# Altium footprint library 数码管.PcbLib: 28 footprints (part 1 of 2)
Each footprint in its own frame and in the unit in brackets; x right, y up, seen from the top. Pads: shape width x height; smd on the part's side, far side on the other; paste and mask are expansions set on the pad; w line width, h text height; cw(c..) or ccw(c..) is an arc to the next point about the centre after c.
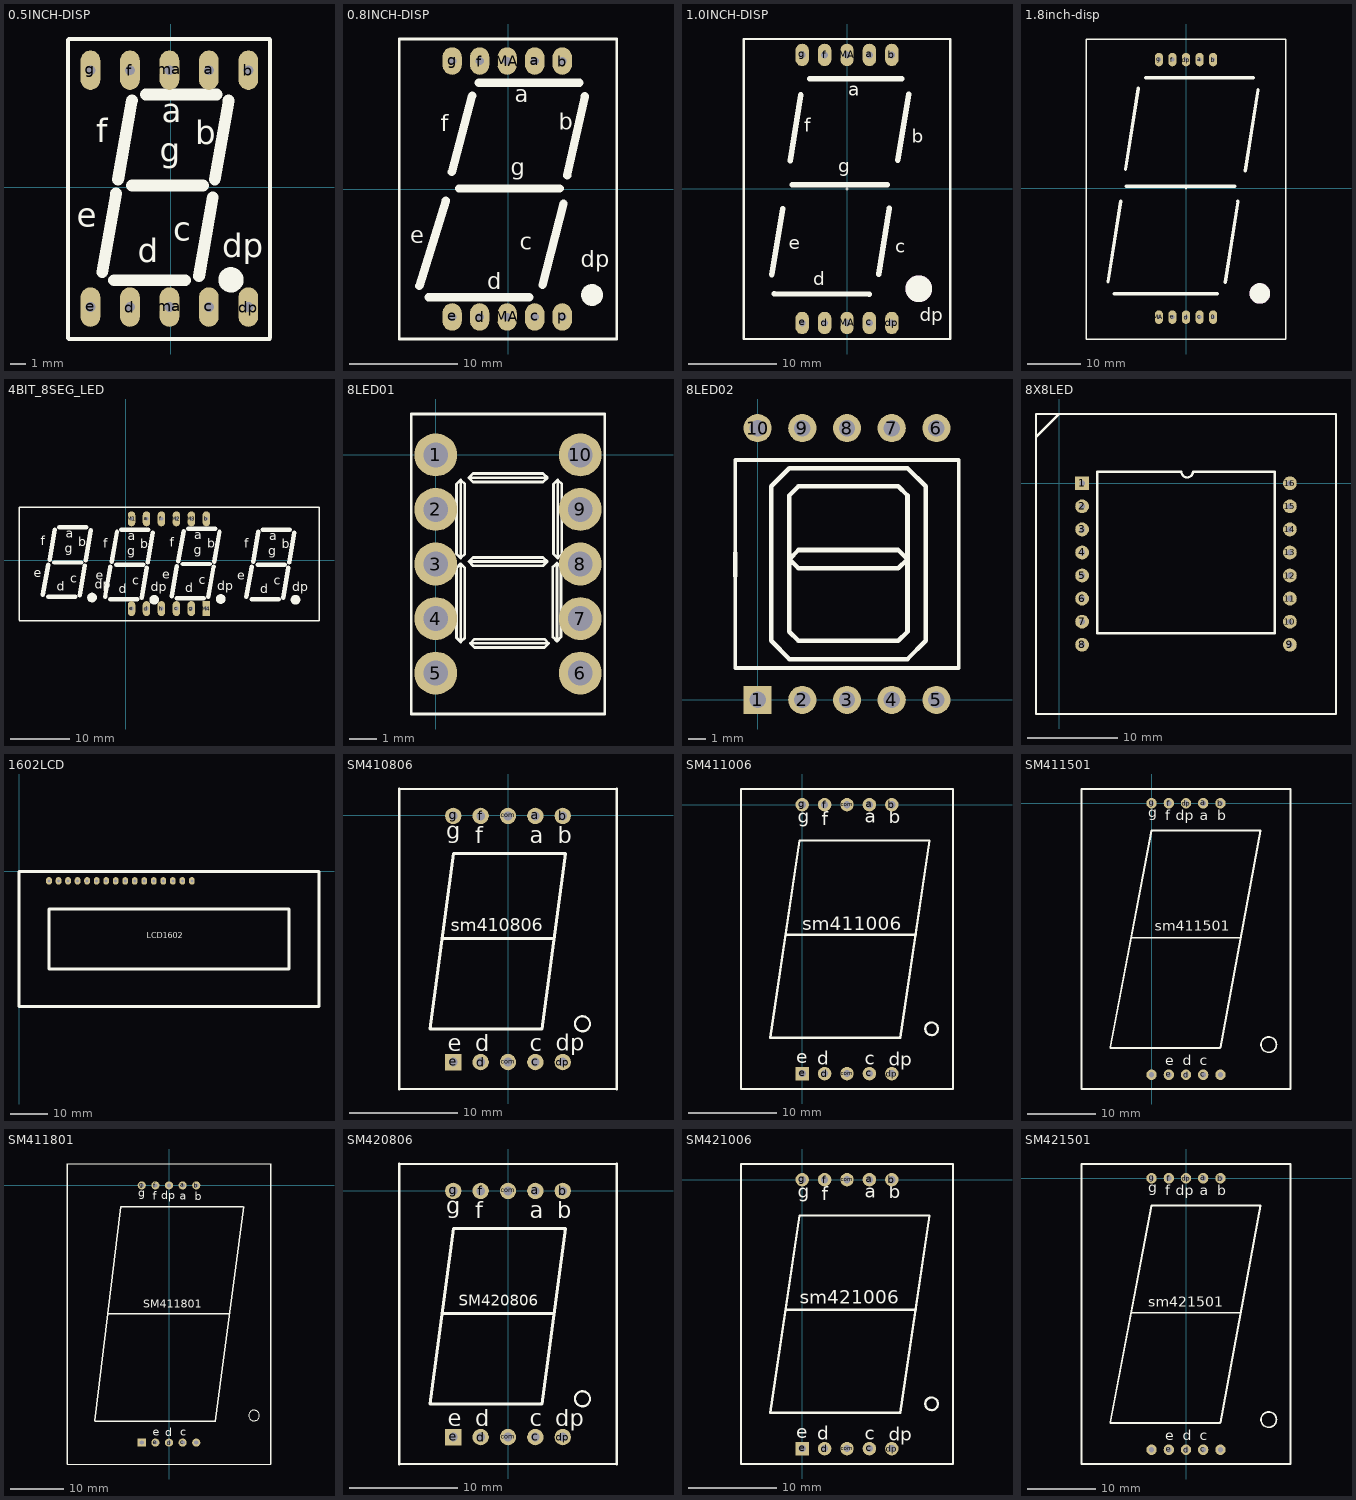
[diagram p0: the footprints below, top view; thin cyan lines are the x and y axes]

## 0.5INCH-DISP [mil]
pads (10):
  oval 50x100 hole 25: a(97,297) b(197,297) c(97,-303) d(-103,-303) dp(197,-303) e(-203,-303) f(-103,297) g(-203,297) ma(-3,-303) ma(-3,297)
Top Overlay:
  circle w40: c153,-234 r12
  lines w10: -260,-382 -260,374 ; -258,-384 251,-384 ; -258,376 251,376 ; 252,-380 252,374
  lines w30: -173,-215 -138,-15 ; -143,-235 37,-235 ; -133,20 -98,220 ; -98,5 82,5 ; -63,235 117,235 ; 72,-225 107,-25 ; 112,20 147,220
  text "c" at 7,-135 h60
  text "dp" at 131,-177 h60
  text "e" at -238,-100 h60
  text "d" at -83,-190 h60
  text "a" at -23,165 h60
  text "g" at -28,65 h60
  text "b" at 62,110 h60
  text "f" at -188,115 h60

## 0.8INCH-DISP [mil]
pads (10):
  oval 70x100 hole 30: a(97,465) b(197,465) c(97,-465) d(-103,-465) e(-203,-465) f(-103,465) g(-203,465) MA(-3,-465) MA(-3,465) p(197,-465)
Top Overlay:
  circle w40: c305.31,-385 r19.68
  lines w10: -395,-545 -395,545 395,545 395,-545 -395,-545
  lines w30: -322,-352 -226,-42 ; -289,-393 77.14,-393 ; -204,62 -130,339 ; -177.68,2.24 188.47,2.24 ; -108,-478 -103,-473 ; -106.14,386 260,386 ; 125,-349 202,-53 ; 215,49 279,337
  text "a" at 25,315 h60
  text "g" at 10,50 h60
  text "c" at 43,-220 h60
  text "d" at -75,-365 h60
  text "e" at -355,-198 h60
  text "f" at -245,210 h60
  text "dp" at 265,-285 h60
  text "b" at 185,215 h60

## 1.0INCH-DISP [mil]
pads (10):
  oval 60x100 hole 30: a(100,598) b(200,598) c(100,-598) d(-100,-598) dp(200,-598) e(-200,-598) f(-100,598) g(-200,598) MA(0,-598) MA(0,598)
Top Overlay:
  lines w2: -6,0 6,0 ; 0,-6 0,5
  lines w10: -461,-10 -461,10 ; -460.88,-669.58 -460.88,669 ; -459.88,-669.58 461,-669.58 461,669 -459.88,669
  lines w25: -335,-382 -287,-89 ; -324,-467 99,-470 ; -254,126 -206,419 ; -244,19 179,19 ; -167,492 245,492 ; 141,-380 189,-87 ; 227,129 275,422
  text "g" at -40,75 h60
  text "dp" at 325,-590 h60
  text "f" at -190,255 h60
  text "e" at -260,-270 h60
  text "d" at -150,-430 h60
  text "c" at 215,-285 h60
  text "b" at 290,205 h60
  text "a" at 5,415 h60
Top Overlay keep-out:
  circle w100: c320.57,-445 r9.43

## 1.8inch-disp [mil]
pads (10):
  oval 60x100 hole 30: 0(200,-950) a(100,950) b(200,950) c(100,-950) d(0,-950) dp(0,950) e(-100,-950) f(-100,950) g(-200,950) MA(-200,-950)
Top Overlay:
  lines w2: -5,0 5,0 ; 0,-5 0,4
  lines w10: -736,-1111 736,-1111 736,1101.6 -736,1101.6 -736,-1111
  lines w25: -575,-691 -481,-93 ; -528,-778 230,-778 ; -446,139 -352,737 ; -442,15 359,15 ; -299,815 496,815 ; 289,-694 383,-96 ; 437,128 531,726
Top Overlay keep-out:
  circle w100: c544.39,-775 r25.61

## 4BIT_8SEG_LED [mil]
pads (12):
  oval 50x100 hole 25: a(137,277) b(537,277) c(337,-323) d(137,-323) e(37,-323) f(237,277) g(437,-323) h(237,-323) M1(37,277) M2(337,277) M3(437,277)
  rect 50x100 hole 25: M4(537,-323)
Top Overlay:
  circle w40: c188,-264 r12
  circle w40: c-227,-249 r12
  circle w40: c633,-259 r12
  circle w40: c1133,-264 r12
  lines w10: -715,-405 1290,-405 ; -715,-401 -715,355 1290,355 1290,-404
  lines w30: -555,-230 -520,-30 ; -520,-245 -340,-245 ; -510,5 -475,205 ; -480,-15 -300,-15 ; -445,220 -265,220 ; -310,-235 -275,-35 ; -270,0 -235,200 ; -140,-245 -105,-45 ; -105,-260 75,-260 ; -95,-10 -60,190 ; -65,-30 115,-30 ; -30,205 150,205 ; 105,-250 140,-50 ; 145,-15 180,185 ; 305,-240 340,-40 ; 340,-255 520,-255 ; 350,-5 385,195 ; 380,-25 560,-25 ; 415,210 595,210 ; 550,-245 585,-45 ; 590,-10 625,190 ; 805,-245 840,-45 ; 840,-260 1020,-260 ; 850,-10 885,190 ; 880,-30 1060,-30 ; 915,205 1095,205 ; 1050,-250 1085,-50 ; 1090,-15 1125,185
  text "c" at 42,-165 h60
  text "dp" at 166,-207 h60
  text "e" at -203,-130 h60
  text "d" at -48,-220 h60
  text "a" at 12,135 h60
  text "g" at 7,35 h60
  text "b" at 97,80 h60
  text "f" at -153,85 h60
  text "c" at -373,-150 h60
  text "dp" at -209,-192 h60
  text "e" at -618,-115 h60
  text "d" at -463,-205 h60
  text "a" at -403,150 h60
  text "g" at -408,50 h60
  text "b" at -318,95 h60
  text "f" at -568,100 h60
  text "c" at 487,-160 h60
  text "dp" at 611,-202 h60
  text "e" at 242,-125 h60
  text "d" at 397,-215 h60
  text "a" at 457,140 h60
  text "g" at 452,40 h60
  text "b" at 542,85 h60
  text "f" at 292,90 h60
  text "c" at 987,-165 h60
  text "dp" at 1111,-207 h60
  text "e" at 742,-130 h60
  text "d" at 897,-220 h60
  text "a" at 957,135 h60
  text "g" at 952,35 h60
  text "b" at 1042,80 h60
  text "f" at 792,85 h60

## 8LED01 [mil]
pads (10):
  round 62 hole 36: 1(0,0) 2(0,-78.74) 3(0,-157.48) 4(0,-236.22) 5(0,-314.96) 6(208.66,-314.96) 7(208.66,-236.22) 8(208.66,-157.48) 9(208.66,-78.74) 10(208.66,0)
Top Overlay:
  lines w3.94: 36,-269.96 36,-156.96 ; 36,-269.96 30,-263.96 30,-162.96 36,-156.96 ; 36,-269.96 42,-263.96 42,-162.96 36,-156.96 ; 36,-148.96 36,-35.96 ; 36,-148.96 30,-142.96 30,-41.96 36,-35.96 ; 36,-148.96 42,-142.96 42,-41.96 36,-35.96 ; 48,-153.96 161,-153.96 ; 48,-153.96 54,-147.96 155,-147.96 161,-153.96 ; 48,-153.96 54,-159.96 155,-159.96 161,-153.96 ; 48,-32.96 161,-32.96 ; 48,-32.96 54,-26.96 155,-26.96 161,-32.96 ; 48,-32.96 54,-38.96 155,-38.96 161,-32.96 ; 50,-271.96 163,-271.96 ; 50,-271.96 56,-265.96 157,-265.96 163,-271.96 ; 50,-271.96 56,-277.96 157,-277.96 163,-271.96 ; 175,-268.96 175,-155.96 ; 175,-268.96 169,-262.96 169,-161.96 175,-155.96 ; 175,-268.96 181,-262.96 181,-161.96 175,-155.96 ; 176,-148.96 176,-35.96 ; 176,-148.96 170,-142.96 170,-41.96 176,-35.96 ; 176,-148.96 182,-142.96 182,-41.96 176,-35.96 ; -35.43,-374.01 244.09,-374.01 244.09,59.05 -35.43,59.05 -35.43,-374.01

## 8LED02 [mil]
pads (10):
  rect 62x62 hole 36: 1(0,0)
  round 62 hole 36: 2(98.42,0) 3(196.85,0) 4(295.28,0) 5(393.7,0) 6(393.7,598.42) 7(295.28,598.42) 8(196.85,598.42) 9(98.42,598.42) 10(0,598.42)
Top Overlay:
  lines w7.87: -49.21,274.61 -49.21,70.28 442.91,70.28 442.91,528.15 -49.21,528.15 -49.21,323.82
  lines w10: -49,272 -49,324 ; 30,130 70,90 330,90 370,130 370,470 330,510 310,510 90,510 70,510 30,470 30,130 ; 70,150 70,450 90,470 310,470 330,450 330,150 310,130 90,130 70,150 ; 70,310 90,330 310,330 330,310 310,290 90,290 70,310

## 8X8LED [mil]
pads (16):
  rect 60x60 hole 25: 1(100,0)
  round 60 hole 25: 2(100,-100) 3(100,-200) 4(100,-300) 5(100,-400) 6(100,-500) 7(100,-600) 8(100,-700) 9(1000,-700) 10(1000,-600) 11(1000,-500) 12(1000,-400) 13(1000,-300) 14(1000,-200) 15(1000,-100) 16(1000,0)
Top Overlay:
  lines w10: -100,200 0,300 ; -100,-1000 1200,-1000 1200,300 -100,300 -100,-1000 ; 165,-650 935,-650 935,50 580,50 cw(c555,50) 530,50 165,50 165,-650

## 1602LCD [mil] "LCD module 16*2 char"
pads (16):
  oval 60x80 hole 30: 1(314.96,-98.43) 2(414.96,-98.43) 3(514.96,-98.43) 4(614.96,-98.43) 5(714.96,-98.43) 6(814.96,-98.43) 7(914.96,-98.43) 8(1014.96,-98.43) 9(1114.96,-98.43) 10(1214.96,-98.43) 11(1314.96,-98.43) 12(1414.96,-98.43) 13(1514.96,-98.43) 14(1614.96,-98.43) 15(1714.96,-98.43) 16(1814.96,-98.43)
Top Overlay:
  lines w30: 0,-1417.32 0,0 3149.61,0 3149.61,-1417.32 0,-1417.32 ; 314.96,-1023.62 314.96,-393.7 2834.65,-393.7 2834.65,-1023.62 314.96,-1023.62
  text "LCD1602" at 1340,-700 h60

## SM410806 [mil]
pads (10):
  round 60 hole 32: a(100,-3) b(200,-3) c(100,-903) com(0,-903) com(0,-3) d(-100,-903) dp(200,-903) f(-100,-3) g(-200,-3)
  rect 60x60 hole 32: e(-200,-903)
Top Overlay:
  circle w8: c272.44,-763 r27.56
  lines w8: -397.64,-1001.42 397.64,-1001.42 ; -397.64,95.42 397.64,95.42 ; -242.2,-447.37 -238.26,-451.31 ; 167.25,-451.31 171.19,-447.37
  lines w10: -397.64,-1001.42 -397.64,95.42 ; -238.26,-451.31 167.25,-451.31 ; 397.64,-1001.42 397.64,95.42 ; -285.5,-782.02 -198.89,-140.28 210.56,-140.28 123.94,-782.02 -285.5,-782.02
  text "d" at -120,-863 h60
  text "c" at 80,-863 h60
  text "dp" at 174,-861 h60
  text "e" at -220,-863 h60
  text "b" at 181,-103 h60
  text "a" at 80,-103 h60
  text "f" at -120,-103 h60
  text "g" at -225.87,-86.3 h60
  text "sm410806" at -210,-425 h47.24

## SM411006 [mil]
pads (10):
  round 60 hole 32: a(299.87,-0.44) b(399.87,-0.44) c(299.87,-1200.52) com(199.87,-1200.52) com(199.87,-0.44) d(99.87,-1200.52) dp(399.87,-1200.52) f(99.87,-0.44) g(-0.13,-0.44)
  rect 60x60 hole 32: e(-0.13,-1200.52)
Top Overlay:
  circle w10: c577.43,-1000.52 r28.28
  lines w10: -72.57,-580.52 507.43,-580.52 ; 199.87,69.48 -272.57,69.48 ; -272.57,69.48 -272.57,-1269.1 672.32,-1269.1 ; -272.57,69.48 672.32,69.48 ; 672.32,-1269.1 672.32,69.48 ; 672.31,-1269.1 672.31,69.48 ; -142.57,-1040.52 -12.57,-160.52 567.43,-160.52 437.43,-1040.52 -142.57,-1040.52
  text "sm411006" at 0,-560 h60
  text "d" at 68,-1162 h60
  text "c" at 278,-1160 h60
  text "dp" at 386,-1166 h60
  text "b" at 386,-84 h60
  text "a" at 280,-82 h60
  text "f" at 88,-92 h60
  text "g" at -20,-80 h60
  text "e" at -26,-1154 h60

## SM411501 [mil]
pads (10):
  round 60 hole 31.5: a(300,0) b(400,0) c(300,-1574.8) com(0,-1574.8) com(400,-1574.8) d(200,-1574.8) dp(200,0) e(100,-1574.8) f(100,0) g(0,0)
Top Overlay:
  circle w10: c680,-1400 r44.72
  lines w10: -240.07,-1417.32 0,-157.48 632.22,-157.48 400,-1417.32 ; -240,-1420 397.32,-1420 ; -112.99,-780 520,-780 ; -406.3,-1657.48 -406.3,82.68 806.3,82.68 806.3,-1657.48 -406.3,-1657.48
  text "f" at 80,-100 h60
  text "g" at -20,-80 h60
  text "c" at 280,-1520 h60
  text "d" at 180,-1520 h60
  text "e" at 80,-1520 h60
  text "dp" at 140,-100 h60
  text "a" at 280,-100 h60
  text "b" at 380,-100 h60
  text "sm411501" at 20,-740 h60

## SM411801 [mil]
pads (10):
  round 60 hole 32: a(100,0) b(200,0) c(100,-1889.76) com(200,-1889.76) d(0,-1889.76) dp(0,0) e(-100,-1889.76) f(-100,0) g(-200,0)
  rect 60x60 hole 32: com(-200,-1889.76)
Top Overlay:
  circle w8: c624.63,-1691 r39.37
  lines w8: -748.03,-2047.24 748.03,-2047.24 ; -748.03,157.48 748.03,157.48
  lines w10: -748.03,-2047.24 -748.03,157.48 ; -545,-1732.28 342.52,-1732.28 ; -545,-1728 -355.02,-157.48 544.2,-157.48 ; -451,-943 445,-943 ; 341.23,-1732.28 549,-157.48 ; 748.03,-2047.24 748.03,157.48
  text "g" at -226,-84 h60
  text "f" at -121,-105 h60
  text "a" at 78,-105 h60
  text "b" at 188,-110 h60
  text "e" at -121,-1838 h60
  text "dp" at -58,-100 h60
  text "c" at 83,-1838 h60
  text "d" at -27,-1843 h60
  text "SM411801" at -190,-900 h59.05

## SM420806 [mil]
pads (10):
  round 60 hole 32: a(100,0) b(200,0) c(100,-900) com(0,-900) com(0,0) d(-100,-900) dp(200,-900) f(-100,0) g(-200,0)
  rect 60x60 hole 32: e(-200,-900)
Top Overlay:
  circle w8: c272.44,-760 r27.56
  lines w8: -397.64,-998.42 397.64,-998.42 ; -397.64,98.42 397.64,98.42 ; -242.2,-444.37 -238.26,-448.31 ; 167.25,-448.31 171.19,-444.37
  lines w10: -397.64,-998.42 -397.64,98.42 ; -238.26,-448.31 167.25,-448.31 ; 397.64,-998.42 397.64,98.42 ; -285.5,-779.02 -198.89,-137.28 210.56,-137.28 123.94,-779.02 -285.5,-779.02
  text "d" at -120,-860 h60
  text "c" at 80,-860 h60
  text "dp" at 172,-861 h60
  text "e" at -220,-860 h60
  text "b" at 180,-100 h60
  text "a" at 80,-100 h60
  text "f" at -120,-100 h60
  text "g" at -225.87,-83.3 h60
  text "SM420806" at -180,-420 h40

## SM421006 [mil]
pads (10):
  round 60 hole 32: a(299.87,-0.44) b(399.87,-0.44) c(299.87,-1200.52) com(199.87,-1200.52) com(199.87,-0.44) d(99.87,-1200.52) dp(399.87,-1200.52) f(99.87,-0.44) g(-0.13,-0.44)
  rect 60x60 hole 32: e(-0.13,-1200.52)
Top Overlay:
  circle w10: c577.43,-1000.52 r28.28
  lines w10: -72.57,-580.52 507.43,-580.52 ; 199.87,69.48 -272.57,69.48 ; -272.57,69.48 -272.57,-1269.1 672.32,-1269.1 ; -272.57,69.48 672.32,69.48 ; 672.32,-1269.1 672.32,69.48 ; 672.31,-1269.1 672.31,69.48 ; -142.57,-1040.52 -12.57,-160.52 567.43,-160.52 437.43,-1040.52 -142.57,-1040.52
  text "sm421006" at -10,-555 h60
  text "d" at 68,-1162 h60
  text "c" at 278,-1160 h60
  text "dp" at 386,-1166 h60
  text "b" at 386,-84 h60
  text "a" at 280,-82 h60
  text "f" at 88,-92 h60
  text "g" at -20,-80 h60
  text "e" at -26,-1154 h60

## SM421501 [mil]
pads (10):
  round 60 hole 31.5: a(100,0) b(200,0) c(100,-1574.8) com(-200,-1574.8) com(200,-1574.8) d(0,-1574.8) dp(0,0) e(-100,-1574.8) f(-100,0) g(-200,0)
Top Overlay:
  circle w10: c480,-1400 r44.72
  lines w10: -440.07,-1417.32 -200,-157.48 432.22,-157.48 200,-1417.32 ; -440,-1420 197.32,-1420 ; -312.99,-780 320,-780 ; -606.3,-1657.48 -606.3,82.68 606.3,82.68 606.3,-1657.48 -606.3,-1657.48
  text "sm421501" at -220,-745 h60
  text "f" at -120,-100 h60
  text "g" at -220,-80 h60
  text "c" at 80,-1520 h60
  text "d" at -20,-1520 h60
  text "e" at -120,-1520 h60
  text "dp" at -60,-100 h60
  text "a" at 80,-100 h60
  text "b" at 180,-100 h60